# Altium footprint library AnchorBoard_SNS.PcbLib: 45 footprints (part 2 of 3)
Each footprint in its own frame and in the unit in brackets; x right, y up, seen from the top. Pads: shape width x height; smd on the part's side, far side on the other; paste and mask are expansions set on the pad; w line width, h text height; cw(c..) or ccw(c..) is an arc to the next point about the centre after c.
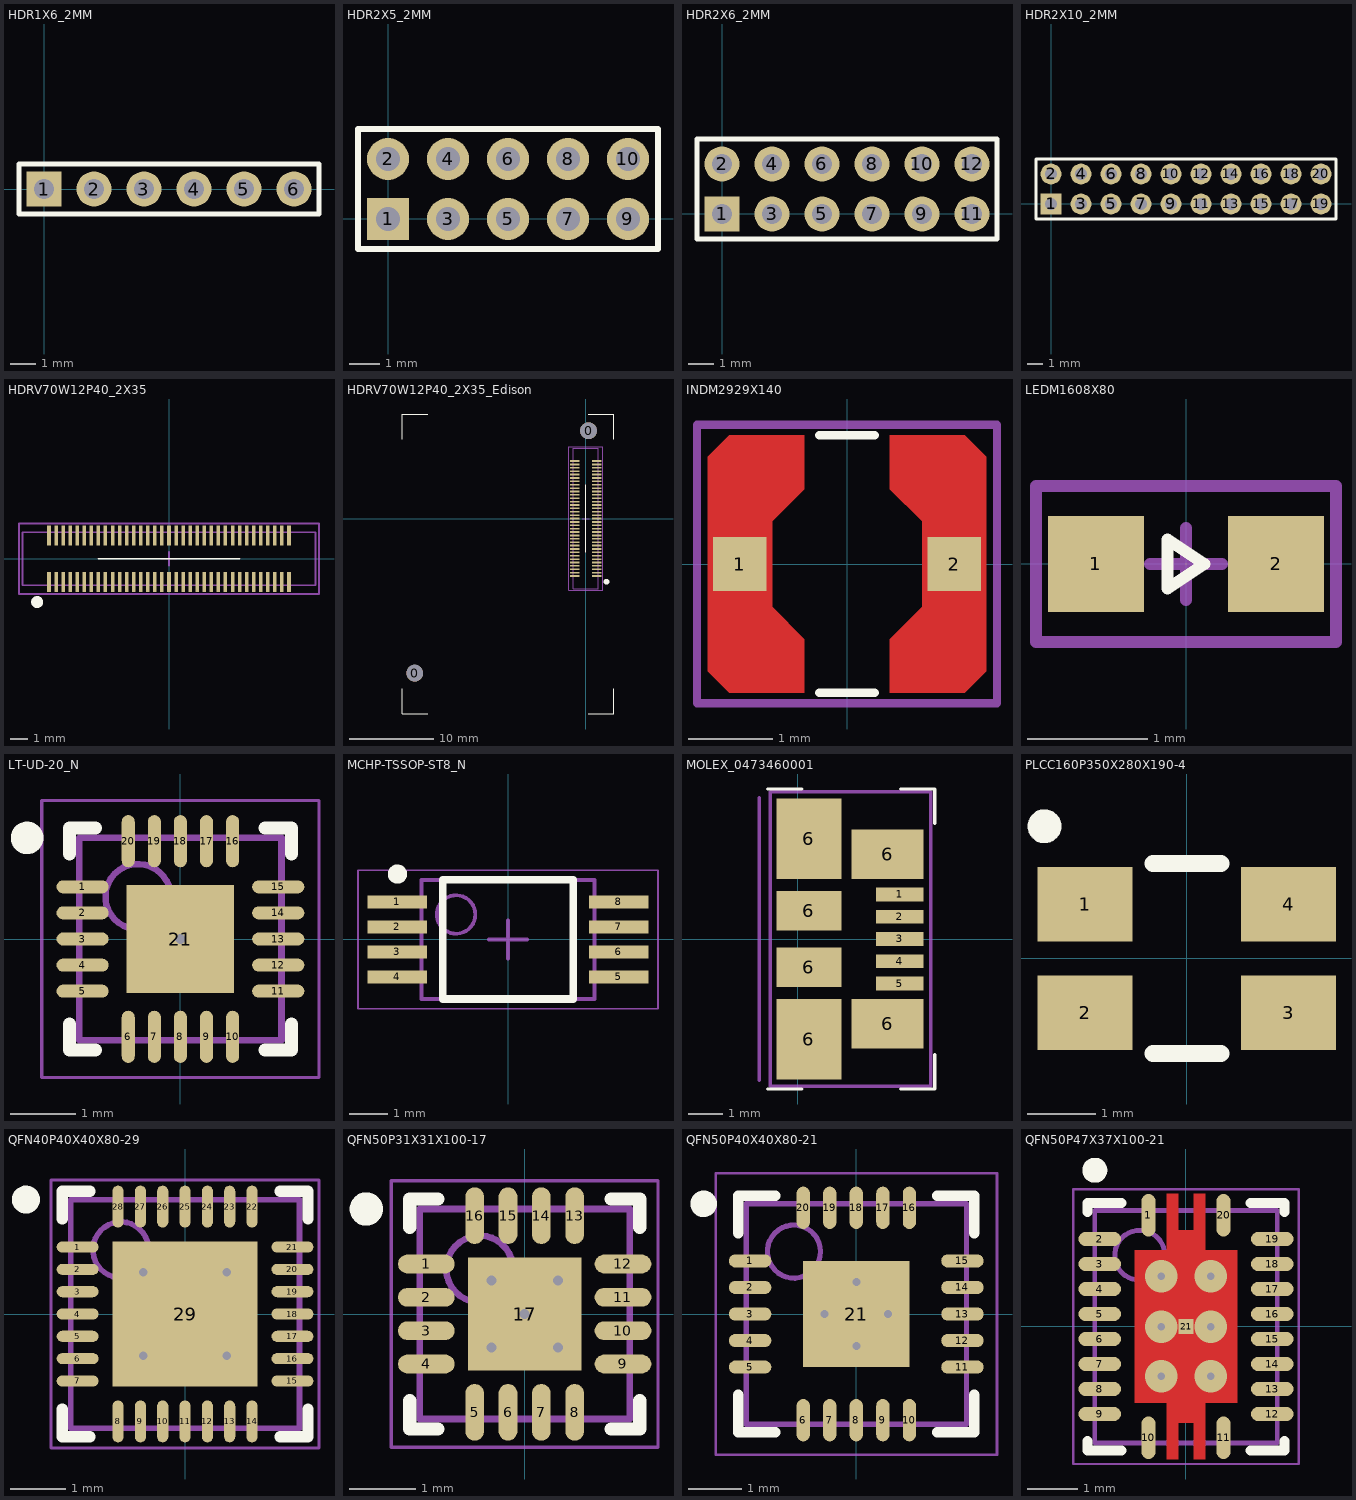
[diagram p1: the footprints below, top view; thin cyan lines are the x and y axes]

## HDR1X6_2MM [mm] "Connector; Header; 6x1 Position"
pads (6):
  rect 1.4x1.4 hole 0.8: 1(0,0)
  round 1.4 hole 0.8: 2(2,0) 3(4,0) 4(6,0) 5(8,0) 6(10,0)
Top Overlay:
  lines w0.2: -1,-1 -1,1 11,1 11,-1 0.905,-1 -1,-1
3D body: height 5.9, standoff -2.8, extent 9.75,-0.25 10.25,0.25
3D body: height 5.9, standoff -2.8, extent 7.75,-0.25 8.25,0.25
3D body: height 5.9, standoff -2.8, extent 5.75,-0.25 6.25,0.25
3D body: height 5.9, standoff -2.8, extent 3.75,-0.25 4.25,0.25
3D body: height 5.9, standoff -2.8, extent 1.75,-0.25 2.25,0.25
3D body: height 5.9, standoff -2.8, extent -0.25,-0.25 0.25,0.25
3D body: height 1.5, standoff 0, extent -1,-1 11,1

## HDR2X5_2MM [mm] "Connector; Header; 5x2 Position"
pads (10):
  rect 1.4x1.4 hole 0.8: 1(0,0)
  round 1.4 hole 0.8: 2(0,2) 3(2,0) 4(2,2) 5(4,0) 6(4,2) 7(6,0) 8(6,2) 9(8,0) 10(8,2)
Top Overlay:
  lines w0.2: -1,-1 -1,3 0.445,3 9,3 9,-1 0.905,-1 -1,-1
3D body: height 1.5, standoff 0, extent -1,-1 9,3
3D body: height 5.9, standoff -2.8, extent -0.25,-0.25 0.25,0.25
3D body: height 5.9, standoff -2.8, extent -0.25,1.75 0.25,2.25
3D body: height 5.9, standoff -2.8, extent 1.75,1.75 2.25,2.25
3D body: height 5.9, standoff -2.8, extent 1.75,-0.25 2.25,0.25
3D body: height 5.9, standoff -2.8, extent 3.75,1.75 4.25,2.25
3D body: height 5.9, standoff -2.8, extent 3.75,-0.25 4.25,0.25
3D body: height 5.9, standoff -2.8, extent 5.75,1.75 6.25,2.25
3D body: height 5.9, standoff -2.8, extent 5.75,-0.25 6.25,0.25
3D body: height 5.9, standoff -2.8, extent 7.75,1.75 8.25,2.25
3D body: height 5.9, standoff -2.8, extent 7.75,-0.25 8.25,0.25

## HDR2X6_2MM [mm] "Connector; Header; 6x2 Position"
pads (12):
  rect 1.4x1.4 hole 0.8: 1(0,0)
  round 1.4 hole 0.8: 2(0,2) 3(2,0) 4(2,2) 5(4,0) 6(4,2) 7(6,0) 8(6,2) 9(8,0) 10(8,2) 11(10,0) 12(10,2)
Top Overlay:
  lines w0.2: -1,-1 0.905,-1 11,-1 11,3 0.445,3 -1,3 -1,-1
3D body: height 5.9, standoff -2.8, extent 9.75,-0.25 10.25,0.25
3D body: height 5.9, standoff -2.8, extent 9.75,1.75 10.25,2.25
3D body: height 5.9, standoff -2.8, extent 7.75,-0.25 8.25,0.25
3D body: height 5.9, standoff -2.8, extent 7.75,1.75 8.25,2.25
3D body: height 5.9, standoff -2.8, extent 5.75,-0.25 6.25,0.25
3D body: height 5.9, standoff -2.8, extent 5.75,1.75 6.25,2.25
3D body: height 5.9, standoff -2.8, extent 3.75,-0.25 4.25,0.25
3D body: height 5.9, standoff -2.8, extent 3.75,1.75 4.25,2.25
3D body: height 5.9, standoff -2.8, extent 1.75,-0.25 2.25,0.25
3D body: height 5.9, standoff -2.8, extent 1.75,1.75 2.25,2.25
3D body: height 5.9, standoff -2.8, extent -0.25,-0.25 0.25,0.25
3D body: height 5.9, standoff -2.8, extent -0.25,1.75 0.25,2.25
3D body: height 1.5, standoff 0, extent -1,-1 11,3

## HDR2X10_2MM [mm] "Connector; Header; 10x2 Position"
pads (20):
  rect 1.4x1.4 hole 0.8: 1(0,0)
  round 1.4 hole 0.8: 2(0,2) 3(2,0) 4(2,2) 5(4,0) 6(4,2) 7(6,0) 8(6,2) 9(8,0) 10(8,2) 11(10,0) 12(10,2) 13(12,0) 14(12,2) 15(14,0) 16(14,2) 17(16,0) 18(16,2) 19(18,0) 20(18,2)
Top Overlay:
  lines w0.2: -1,-1 0.905,-1 19,-1 19,3 0.445,3 -1,3 -1,-1
3D body: height 5.9, standoff -2.8, extent 17.75,-0.25 18.25,0.25
3D body: height 5.9, standoff -2.8, extent 17.75,1.75 18.25,2.25
3D body: height 5.9, standoff -2.8, extent 15.75,-0.25 16.25,0.25
3D body: height 5.9, standoff -2.8, extent 15.75,1.75 16.25,2.25
3D body: height 5.9, standoff -2.8, extent 13.75,-0.25 14.25,0.25
3D body: height 5.9, standoff -2.8, extent 13.75,1.75 14.25,2.25
3D body: height 5.9, standoff -2.8, extent 11.75,-0.25 12.25,0.25
3D body: height 5.9, standoff -2.8, extent 11.75,1.75 12.25,2.25
3D body: height 5.9, standoff -2.8, extent 9.75,-0.25 10.25,0.25
3D body: height 5.9, standoff -2.8, extent 9.75,1.75 10.25,2.25
3D body: height 5.9, standoff -2.8, extent 7.75,-0.25 8.25,0.25
3D body: height 5.9, standoff -2.8, extent 7.75,1.75 8.25,2.25
3D body: height 5.9, standoff -2.8, extent 5.75,-0.25 6.25,0.25
3D body: height 5.9, standoff -2.8, extent 5.75,1.75 6.25,2.25
3D body: height 5.9, standoff -2.8, extent 3.75,-0.25 4.25,0.25
3D body: height 5.9, standoff -2.8, extent 3.75,1.75 4.25,2.25
3D body: height 5.9, standoff -2.8, extent 1.75,-0.25 2.25,0.25
3D body: height 5.9, standoff -2.8, extent 1.75,1.75 2.25,2.25
3D body: height 5.9, standoff -2.8, extent -0.25,-0.25 0.25,0.25
3D body: height 5.9, standoff -2.8, extent -0.25,1.75 0.25,2.25
3D body: height 1.5, standoff 0, extent -1,-1 19,3

## HDRV70W12P40_2X35 [mm]
height 1.95
pads (70):
  rect 0.2x1.14 smd paste-0.05 mask+0.02: 1(-6.8,-1.32) 2(-6.8,1.32) 3(-6.4,-1.32) 4(-6.4,1.32) 5(-6,-1.32) 6(-6,1.32) 7(-5.6,-1.32) 8(-5.6,1.32) 9(-5.2,-1.32) 10(-5.2,1.32) 11(-4.8,-1.32) 12(-4.8,1.32) 13(-4.4,-1.32) 14(-4.4,1.32) 15(-4,-1.32) 16(-4,1.32) 17(-3.6,-1.32) 18(-3.6,1.32) 19(-3.2,-1.32) 20(-3.2,1.32) 21(-2.8,-1.32) 22(-2.8,1.32) 23(-2.4,-1.32) 24(-2.4,1.32) 25(-2,-1.32) 26(-2,1.32) 27(-1.6,-1.32) 28(-1.6,1.32) 29(-1.2,-1.32) 30(-1.2,1.32) 31(-0.8,-1.32) 32(-0.8,1.32) 33(-0.4,-1.32) 34(-0.4,1.32) 35(0,-1.32) 36(0,1.32) 37(0.4,-1.32) 38(0.4,1.32) 39(0.8,-1.32) 40(0.8,1.32) 41(1.2,-1.32) 42(1.2,1.32) 43(1.6,-1.32) 44(1.6,1.32) 45(2,-1.32) 46(2,1.32) 47(2.4,-1.32) 48(2.4,1.32) 49(2.8,-1.32) 50(2.8,1.32) 51(3.2,-1.32) 52(3.2,1.32) 53(3.6,-1.32) 54(3.6,1.32) 55(4,-1.32) 56(4,1.32) 57(4.4,-1.32) 58(4.4,1.32) 59(4.8,-1.32) 60(4.8,1.32) 61(5.2,-1.32) 62(5.2,1.32) 63(5.6,-1.32) 64(5.6,1.32) 65(6,-1.32) 66(6,1.32) 67(6.4,-1.32) 68(6.4,1.32) 69(6.8,-1.32) 70(6.8,1.32)
Top Overlay:
  circle w0.4: c-7.475,-2.45 r0.141
  lines w0.1: -4,0 4,0
Mechanical 13:
  lines w0.1: -8.3,-1.5 -8.3,1.5 8.3,1.5 8.3,-1.5 -8.3,-1.5
Mechanical 15:
  lines w0.1: -0.4,0 0.4,0 ; 0,-0.4 0,0.4 ; -8.5,-2 8.5,-2 8.5,2 -8.5,2 -8.5,-2
  text "1" at -8.15,-1.675 h1.52
3D body: height 1.95, standoff 0, extent -8.3,-1.5 8.3,1.5

## HDRV70W12P40_2X35_Edison [mm] "Header for Intel Edison"
height 1.95
pads (72):
  round 2 hole 2 paste+0 mask+0: 0(-20.23,-18.3) 0(0.33,10.39)
  rect 1.14x0.2 smd paste-0.05 mask+0.02: 1(1.32,-6.8) 2(-1.32,-6.8) 3(1.32,-6.4) 4(-1.32,-6.4) 5(1.32,-6) 6(-1.32,-6) 7(1.32,-5.6) 8(-1.32,-5.6) 9(1.32,-5.2) 10(-1.32,-5.2) 11(1.32,-4.8) 12(-1.32,-4.8) 13(1.32,-4.4) 14(-1.32,-4.4) 15(1.32,-4) 16(-1.32,-4) 17(1.32,-3.6) 18(-1.32,-3.6) 19(1.32,-3.2) 20(-1.32,-3.2) 21(1.32,-2.8) 22(-1.32,-2.8) 23(1.32,-2.4) 24(-1.32,-2.4) 25(1.32,-2) 26(-1.32,-2) 27(1.32,-1.6) 28(-1.32,-1.6) 29(1.32,-1.2) 30(-1.32,-1.2) 31(1.32,-0.8) 32(-1.32,-0.8) 33(1.32,-0.4) 34(-1.32,-0.4) 35(1.32,0) 36(-1.32,0) 37(1.32,0.4) 38(-1.32,0.4) 39(1.32,0.8) 40(-1.32,0.8) 41(1.32,1.2) 42(-1.32,1.2) 43(1.32,1.6) 44(-1.32,1.6) 45(1.32,2) 46(-1.32,2) 47(1.32,2.4) 48(-1.32,2.4) 49(1.32,2.8) 50(-1.32,2.8) 51(1.32,3.2) 52(-1.32,3.2) 53(1.32,3.6) 54(-1.32,3.6) 55(1.32,4) 56(-1.32,4) 57(1.32,4.4) 58(-1.32,4.4) 59(1.32,4.8) 60(-1.32,4.8) 61(1.32,5.2) 62(-1.32,5.2) 63(1.32,5.6) 64(-1.32,5.6) 65(1.32,6) 66(-1.32,6) 67(1.32,6.4) 68(-1.32,6.4) 69(1.32,6.8) 70(-1.32,6.8)
Top Overlay:
  circle w0.4: c2.45,-7.475 r0.141
  lines w0.1: -21.7,-20.13 -21.7,-23.13 -18.7,-23.13 ; -21.7,9.37 -21.7,12.37 -18.7,12.37 ; 0,-4 0,4 ; 0.3,-23.13 3.3,-23.13 3.3,-20.13 ; 0.3,12.37 3.3,12.37 3.3,9.37
Mechanical 13:
  lines w0.1: -1.5,-8.3 1.5,-8.3 1.5,8.3 -1.5,8.3 -1.5,-8.3
Mechanical 15:
  lines w0.1: -0.4,0 0.4,0 ; 0,-0.4 0,0.4 ; -2,-8.5 2,-8.5 2,8.5 -2,8.5 -2,-8.5
  text "1" at 1.675,-8.15 h1.52
3D body: height 1.95, standoff 0, extent -1.5,-8.3 1.5,8.3
3D body: height 5.51, standoff 1.5, extent -21.79,-23.255 3.29,12.305

## INDM2929X140 [mm] "coilcraft inductor lps3015"
height 1.4
pads (2):
  rect 0.635x0.635 smd paste+0 mask+0: 1(-1.27,0) 2(1.27,0)
Top Layer:
  region: 0.508,-1.524 0.508,-0.889 0.889,-0.508 0.889,0.508 0.508,0.889 0.508,1.524 1.397,1.524 1.651,1.27 1.651,-1.27 1.397,-1.524
  region: -1.651,-1.27 -1.397,-1.524 -0.508,-1.524 -0.508,-0.889 -0.889,-0.508 -0.889,0.508 -0.508,0.889 -0.508,1.524 -1.397,1.524 -1.651,1.27
Top Overlay:
  lines w0.1: -0.33,-1.524 0.33,-1.524 ; -0.33,1.524 0.33,1.524
Mechanical 15:
  lines w0.1: -1.778,-1.651 1.778,-1.651 1.778,1.651 -1.778,1.651 -1.778,-1.651
3D body: height 1.4, standoff 0, extent -1.473,-1.473 1.473,1.473

## LEDM1608X80 [mm] "LED; 1.6x0.8mm"
height 0.8
pads (2):
  rect 0.8x0.8 smd: 1(-0.75,0) 2(0.75,0)
Top Overlay:
  lines w0.1: -0.152,-0.203 -0.152,0 -0.152,0.203 0.152,0 -0.152,-0.203
Mechanical 15:
  lines w0.1: -0.3,0 0.3,0 ; 0,-0.3 0,0.3 ; -1.25,-0.65 1.25,-0.65 1.25,0.65 -1.25,0.65 -1.25,-0.65
3D body: height 0.5, standoff 0, extent -0.8,-0.4 -0.45,0.4
3D body: height 0.5, standoff 0, extent 0.45,-0.4 0.8,0.4
3D body: height 0.5, standoff 0, extent -0.45,-0.4 0.45,0.4

## LT-UD-20_N [mm] "QFN, 20-Leads, Body 3.1x3.1mm, Pitch 0.4mm, Thermal Pad 1.65x1.65mm, IPC Medium Density"
height 0.8
pads (21):
  oval 0.8x0.2 smd: 1(-1.5,0.8) 2(-1.5,0.4) 3(-1.5,0) 4(-1.5,-0.4) 5(-1.5,-0.8) 11(1.5,-0.8) 12(1.5,-0.4) 13(1.5,0) 14(1.5,0.4) 15(1.5,0.8)
  oval 0.2x0.8 smd: 6(-0.8,-1.5) 7(-0.4,-1.5) 8(0,-1.5) 9(0.4,-1.5) 10(0.8,-1.5) 16(0.8,1.5) 17(0.4,1.5) 18(0,1.5) 19(-0.4,1.5) 20(-0.8,1.5)
  rect 1.65x1.65 smd: 21(0,0)
via 0,0 diameter 0.55 hole 0.15
Top Overlay:
  circle w0.25: c-2.35,1.55 r0.125
  lines w0.2: -1.7,-1.3 -1.7,-1.7 -1.3,-1.7 ; -1.7,1.3 -1.7,1.7 -1.3,1.7 ; 1.3,-1.7 1.7,-1.7 1.7,-1.3 ; 1.3,1.7 1.7,1.7 1.7,1.3
Mechanical 13:
  circle w0.1: c-0.65,0.65 r0.5
  lines w0.1: -1.55,-1.55 -1.55,1.55 1.55,1.55 1.55,-1.55 -1.55,-1.55
Mechanical 15:
  lines w0.05: -2.125,-2.125 -2.125,2.125 2.125,2.125 2.125,-2.125 -2.125,-2.125
  lines w0.1: -0.5,0 0.5,0 ; 0,-0.5 0,0.5
3D body: height 0.8, standoff 0, extent -1.55,-1.55 1.55,1.55

## MCHP-TSSOP-ST8_N [mm] "SOP, 8-Leads, Body 4.4x3mm, Pitch 0.65mm, IPC Medium Density"
height 1.2
pads (8):
  rect 1.55x0.35 smd paste-0.08: 1(-2.875,0.975) 2(-2.875,0.325) 3(-2.875,-0.325) 4(-2.875,-0.975) 5(2.875,-0.975) 6(2.875,-0.325) 7(2.875,0.325) 8(2.875,0.975)
Top Overlay:
  circle w0.25: c-2.875,1.7 r0.125
  lines w0.2: -1.7,-1.55 -1.7,1.55 1.7,1.55 1.7,-1.55 -1.7,-1.55
Mechanical 13:
  circle w0.1: c-1.35,0.65 r0.5
  lines w0.1: -2.25,-1.55 -2.25,1.55 2.25,1.55 2.25,-1.55 -2.25,-1.55
Mechanical 15:
  lines w0.05: -3.9,-1.8 -3.9,1.8 3.9,1.8 3.9,-1.8 -3.9,-1.8
  lines w0.1: -0.5,0 0.5,0 ; 0,-0.5 0,0.5
3D body: height 1.2, standoff 0.05, extent -2.25,-1.55 2.25,1.55
3D body: height 0.2, standoff 0, extent -3.075,0.825 -2.425,1.125
3D body: height 0.6, standoff 0, extent -2.625,0.825 -2.425,1.125
3D body: height 0.6, standoff 0.4, extent -2.625,0.825 -2.175,1.125
3D body: height 0.2, standoff 0, extent -3.075,0.175 -2.425,0.475
3D body: height 0.6, standoff 0, extent -2.625,0.175 -2.425,0.475
3D body: height 0.6, standoff 0.4, extent -2.625,0.175 -2.175,0.475
3D body: height 0.2, standoff 0, extent -3.075,-0.475 -2.425,-0.175
3D body: height 0.6, standoff 0, extent -2.625,-0.475 -2.425,-0.175
3D body: height 0.6, standoff 0.4, extent -2.625,-0.475 -2.175,-0.175
3D body: height 0.2, standoff 0, extent -3.075,-1.125 -2.425,-0.825
3D body: height 0.6, standoff 0, extent -2.625,-1.125 -2.425,-0.825
3D body: height 0.6, standoff 0.4, extent -2.625,-1.125 -2.175,-0.825
3D body: height 0.2, standoff 0, extent 2.425,0.825 3.075,1.125
3D body: height 0.6, standoff 0, extent 2.425,0.825 2.625,1.125
3D body: height 0.6, standoff 0.4, extent 2.175,0.825 2.625,1.125
3D body: height 0.2, standoff 0, extent 2.425,0.175 3.075,0.475
3D body: height 0.6, standoff 0, extent 2.425,0.175 2.625,0.475
3D body: height 0.6, standoff 0.4, extent 2.175,0.175 2.625,0.475
3D body: height 0.2, standoff 0, extent 2.425,-0.475 3.075,-0.175
3D body: height 0.6, standoff 0, extent 2.425,-0.475 2.625,-0.175
3D body: height 0.6, standoff 0.4, extent 2.175,-0.475 2.625,-0.175
3D body: height 0.2, standoff 0, extent 2.425,-1.125 3.075,-0.825
3D body: height 0.6, standoff 0, extent 2.425,-1.125 2.625,-0.825
3D body: height 0.6, standoff 0.4, extent 2.175,-1.125 2.625,-0.825
3D body: height 1.22, standoff 1.21, extent -1.798,0.8 -1.4,1.2

## MOLEX_0473460001 [mm] "Molex USB Micro B"
height 2.45
pads (11):
  rect 1.38x0.4 smd paste-0.08: 1(2.975,1.3) 2(2.975,0.65) 3(2.975,0) 4(2.975,-0.65) 5(2.975,-1.3)
  rect 1.9x2.35 smd: 6(0.325,-2.925) 6(0.325,2.925)
  rect 1.9x1.15 smd: 6(0.325,-0.825) 6(0.325,0.825)
  rect 2.1x1.45 smd: 6(2.625,-2.475) 6(2.625,2.475)
Top Overlay:
  lines w0.1: -0.875,-4.375 0.125,-4.375 ; -0.875,4.375 0.125,4.375 ; 3,-4.375 4,-4.375 4,-3.375 ; 3,4.375 4,4.375 4,3.375
Mechanical 13:
  lines w0.1: -1.125,-4.125 -1.125,0 -1.125,4.125
Mechanical 15:
  lines w0.1: -0.8,-4.3 3.875,-4.3 3.875,4.3 -0.8,4.3 -0.8,-4.3
3D body: height 2.72, standoff -0.22, extent -1.78,-3.99 3.65,3.99

## PLCC160P350X280X190-4 [mm]
height 1.9
pads (4):
  rect 1.4x1.1 smd: 1(-1.5,0.8) 2(-1.5,-0.8) 3(1.5,-0.8) 4(1.5,0.8)
Top Overlay:
  circle w0.25: c-2.1,1.95 r0.125
  lines w0.254: -0.5,-1.4 0.5,-1.4 ; -0.5,1.4 0.5,1.4
3D body: height 1.9, standoff 0, extent -1.75,-1.4 1.75,1.4

## QFN40P40X40X80-29 [mm] "TQFN28-EP, T2844+1, MAX8934"
height 0.8
pads (29):
  oval 0.75x0.2 smd: 1(-1.925,1.2) 2(-1.925,0.8) 3(-1.925,0.4) 4(-1.925,0) 5(-1.925,-0.4) 6(-1.925,-0.8) 7(-1.925,-1.2) 15(1.925,-1.2) 16(1.925,-0.8) 17(1.925,-0.4) 18(1.925,0) 19(1.925,0.4) 20(1.925,0.8) 21(1.925,1.2)
  oval 0.2x0.75 smd: 8(-1.2,-1.925) 9(-0.8,-1.925) 10(-0.4,-1.925) 11(0,-1.925) 12(0.4,-1.925) 13(0.8,-1.925) 14(1.2,-1.925) 22(1.2,1.925) 23(0.8,1.925) 24(0.4,1.925) 25(0,1.925) 26(-0.4,1.925) 27(-0.8,1.925) 28(-1.2,1.925)
  rect 2.6x2.6 smd paste-0.4: 29(0,0)
via -0.75,0.75 diameter 0.65 hole 0.15
via 0.75,0.75 diameter 0.65 hole 0.15
via -0.75,-0.75 diameter 0.65 hole 0.15
via 0.75,-0.75 diameter 0.65 hole 0.15
Top Overlay:
  circle w0.25: c-2.85,2.05 r0.125
  lines w0.2: -2.2,-1.7 -2.2,-2.2 -1.7,-2.2 ; -2.2,1.7 -2.2,2.2 -1.7,2.2 ; 1.7,-2.2 2.2,-2.2 2.2,-1.7 ; 1.7,2.2 2.2,2.2 2.2,1.7
Mechanical 13:
  circle w0.1: c-1.15,1.15 r0.5
  lines w0.1: -2.05,-2.05 -2.05,2.05 2.05,2.05 2.05,-2.05 -2.05,-2.05
Mechanical 15:
  lines w0.05: -2.4,-2.4 -2.4,2.4 2.4,2.4 2.4,-2.4 -2.4,-2.4
  lines w0.1: -0.5,0 0.5,0 ; 0,-0.5 0,0.5
3D body: height 0.8, standoff 0, extent -2.05,-2.05 2.05,2.05

## QFN50P31X31X100-17 [mm] "VQFN16, BQ24073"
height 1
pads (17):
  oval 0.85x0.28 smd paste-0.025 mask+0.07: 1(-1.475,0.75) 2(-1.475,0.25) 3(-1.475,-0.25) 4(-1.475,-0.75) 9(1.475,-0.75) 10(1.475,-0.25) 11(1.475,0.25) 12(1.475,0.75)
  oval 0.28x0.85 smd paste-0.025 mask+0.07: 5(-0.75,-1.475) 6(-0.25,-1.475) 7(0.25,-1.475) 8(0.75,-1.475) 13(0.75,1.475) 14(0.25,1.475) 15(-0.25,1.475) 16(-0.75,1.475)
  rect 1.7x1.7 smd paste-0.85 mask+0.07: 17(0,0)
via 0,0 diameter 0.55 hole 0.15
via 0.5,0.5 diameter 0.55 hole 0.15
via 0.5,-0.5 diameter 0.55 hole 0.15
via -0.5,-0.5 diameter 0.55 hole 0.15
via -0.5,0.5 diameter 0.55 hole 0.15
Top Overlay:
  circle w0.25: c-2.375,1.575 r0.125
  lines w0.2: -1.725,-1.3 -1.725,-1.725 -1.3,-1.725 ; -1.725,1.3 -1.725,1.725 -1.3,1.725 ; 1.3,-1.725 1.725,-1.725 1.725,-1.3 ; 1.3,1.725 1.725,1.725 1.725,1.3
Top Paste:
  rectangle: 0.1,0.1 0.8,0.8
  region: 0.1,-0.1 0.1,-0.8 0.8,-0.8 0.8,-0.1
  region: -0.1,-0.1 -0.8,-0.1 -0.8,-0.8 -0.1,-0.8
  region: -0.1,0.1 -0.1,0.8 -0.8,0.8 -0.8,0.1
Mechanical 13:
  circle w0.1: c-0.675,0.675 r0.5
  lines w0.1: -1.575,-1.575 1.575,-1.575 1.575,1.575 -1.575,1.575 -1.575,-1.575
Mechanical 15:
  lines w0.05: -2,-2 2,-2 2,2 -2,2 -2,-2
  lines w0.1: -0.5,0 0.5,0 ; 0,-0.5 0,0.5
3D body: height 1, standoff 0, extent -1.575,-1.575 1.575,1.575

## QFN50P40X40X80-21 [mm] "FT231XQ"
height 0.8
pads (21):
  oval 0.8x0.25 smd: 1(-2,1) 2(-2,0.5) 3(-2,0) 4(-2,-0.5) 5(-2,-1) 11(2,-1) 12(2,-0.5) 13(2,0) 14(2,0.5) 15(2,1)
  oval 0.25x0.8 smd: 6(-1,-2) 7(-0.5,-2) 8(0,-2) 9(0.5,-2) 10(1,-2) 16(1,2) 17(0.5,2) 18(0,2) 19(-0.5,2) 20(-1,2)
  rect 2x2 smd paste-1: 21(0,0)
via 0,-0.6 diameter 0.65 hole 0.15
via 0.6,0 diameter 0.65 hole 0.15
via -0.6,0 diameter 0.65 hole 0.15
via 0,0.6 diameter 0.65 hole 0.15
Top Overlay:
  circle w0.25: c-2.875,2.075 r0.125
  lines w0.2: -2.225,-1.525 -2.225,-2.225 -1.525,-2.225 ; -2.225,1.525 -2.225,2.225 -1.525,2.225 ; 1.525,-2.225 2.225,-2.225 2.225,-1.525 ; 1.525,2.225 2.225,2.225 2.225,1.525
Top Paste:
  rectangle: -0.6,-0.6 0.6,0.6
Mechanical 13:
  circle w0.1: c-1.175,1.175 r0.5
  lines w0.1: -2.075,-2.075 2.075,-2.075 2.075,2.075 -2.075,2.075 -2.075,-2.075
Mechanical 15:
  lines w0.05: -2.65,-2.65 2.65,-2.65 2.65,2.65 -2.65,2.65 -2.65,-2.65
  lines w0.1: -0.5,0 0.5,0 ; 0,-0.5 0,0.5
3D body: height 0.8, standoff 0, extent -2.075,-2.075 2.075,2.075

## QFN50P47X37X100-21 [mm] "VQFN, TXB0108RGYR"
height 1
pads (21):
  oval 0.28x0.85 smd paste-0.025 mask+0.07: 1(-0.75,2.225) 10(-0.75,-2.225) 11(0.75,-2.225) 20(0.75,2.225)
  oval 0.85x0.28 smd paste-0.025 mask+0.07: 2(-1.725,1.75) 3(-1.725,1.25) 4(-1.725,0.75) 5(-1.725,0.25) 6(-1.725,-0.25) 7(-1.725,-0.75) 8(-1.725,-1.25) 9(-1.725,-1.75) 12(1.725,-1.75) 13(1.725,-1.25) 14(1.725,-0.75) 15(1.725,-0.25) 16(1.725,0.25) 17(1.725,0.75) 18(1.725,1.25) 19(1.725,1.75)
  rect 0.3x0.3 smd paste-0.15 mask+0: 21(0,0)
via 0.5,-1 diameter 0.65 hole 0.15
via 0.5,0 diameter 0.65 hole 0.15
via 0.5,1 diameter 0.65 hole 0.15
via -0.5,-1 diameter 0.65 hole 0.15
via -0.5,0 diameter 0.65 hole 0.15
via -0.5,1 diameter 0.65 hole 0.15
Top Layer:
  region: 0.16,2.65 0.16,1.925 -0.16,1.925 -0.16,2.65 -0.39,2.65 -0.39,1.525 -1.025,1.525 -1.025,-1.525 -0.39,-1.525 -0.39,-2.65 -0.16,-2.65 -0.16,-1.925 0.16,-1.925 0.16,-2.65 0.39,-2.65 0.39,-1.525 1.025,-1.525 1.025,1.525 0.39,1.525 0.39,2.65
Top Overlay:
  circle w0.25: c-1.825,3.125 r0.125
  lines w0.2: -1.975,-2.29 -1.975,-2.475 -1.29,-2.475 ; -1.975,2.29 -1.975,2.475 -1.29,2.475 ; 1.29,-2.475 1.975,-2.475 1.975,-2.29 ; 1.29,2.475 1.975,2.475 1.975,2.29
Top Paste:
  region: 0.15,1.47 0.15,0.15 0.97,0.15 0.97,1.47
  region: 0.97,-1.47 0.97,-0.15 0.15,-0.15 0.15,-1.47
  region: -0.15,-1.47 -0.15,-0.15 -0.97,-0.15 -0.97,-1.47
  region: -0.97,1.47 -0.97,0.15 -0.15,0.15 -0.15,1.47
  region: 0.39,-2.625 0.39,-1.725 0.16,-1.725 0.16,-2.625
  region: 0.16,2.625 0.16,1.725 0.39,1.725 0.39,2.625
  region: -0.16,-2.625 -0.16,-1.725 -0.39,-1.725 -0.39,-2.625
  region: -0.39,2.625 -0.39,1.725 -0.16,1.725 -0.16,2.625
Mechanical 13:
  circle w0.1: c-0.925,1.425 r0.5
  lines w0.1: -1.825,-2.325 -1.825,2.325 1.825,2.325 1.825,-2.325 -1.825,-2.325
Mechanical 15:
  lines w0.05: -2.25,-2.75 -2.25,2.75 2.25,2.75 2.25,-2.75 -2.25,-2.75
  lines w0.1: -0.5,0 0.5,0 ; 0,-0.5 0,0.5
3D body: height 1, standoff 0, extent -1.825,-2.325 1.825,2.325